# Altium schematic symbol library AD9106BCPZ.SchLib: 1 symbol
Pins are listed as number, name and electrical type; pins without a type are passive.

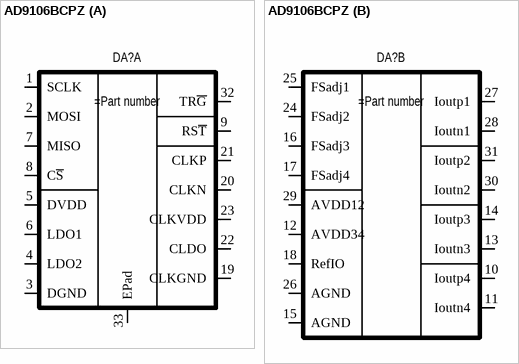
[diagram p0: symbol AD9106BCPZ]

## AD9106BCPZ
designator DA?
Quad, Low Power, 12-Bit, 180 MSPS, Digital-to- / Analog Converter and Waveform Generator
part A pins: 1 SCLK, 2 MOSI, 3 DGND, 4 LDO2, 5 DVDD, 6 LDO1, 7 MISO, 8 C~{S}, 9 RS~{T}, 19 CLKGND, 20 CLKN, 21 CLKP, 22 CLDO, 23 CLKVDD, 32 TR~{G}, 33 EPad
part B pins: 10 Ioutp4, 11 Ioutn4, 12 AVDD34, 13 Ioutn3, 14 Ioutp3, 15 AGND, 16 FSadj3, 17 FSadj4, 18 RefIO, 24 FSadj2, 25 FSadj1, 26 AGND, 27 Ioutp1, 28 Ioutn1, 29 AVDD12, 30 Ioutn2, 31 Ioutp2